# Altium schematic symbol library Transistor.SchLib: 47 symbols
Pins are listed as number, name and electrical type; pins without a type are passive.

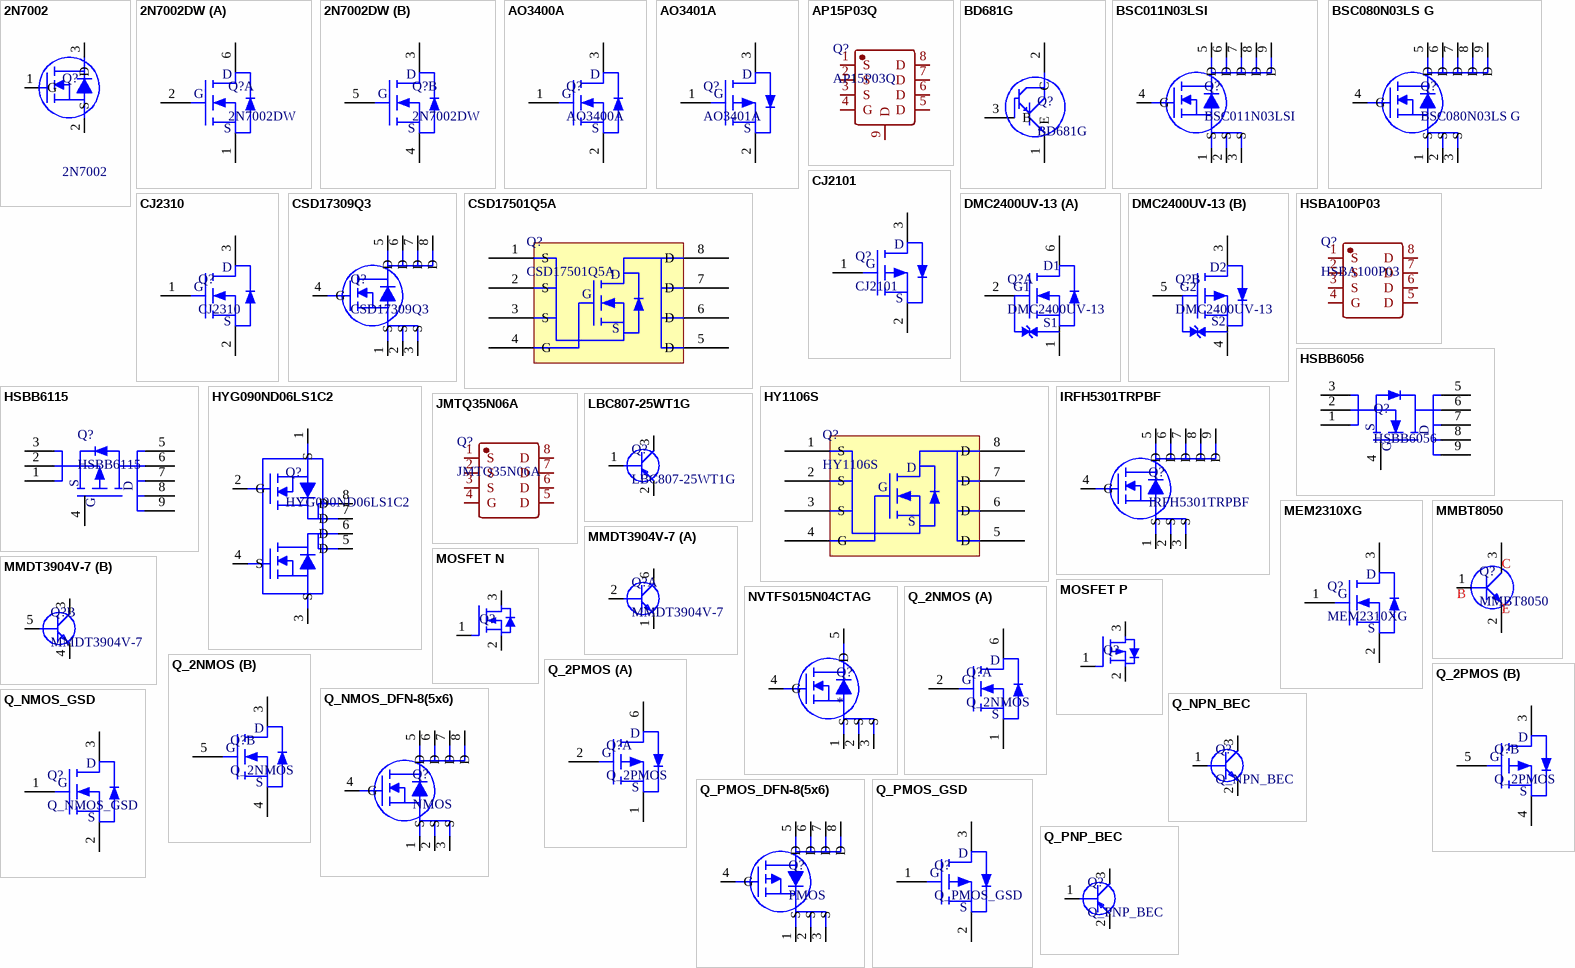
[diagram p0: symbols 2N7002 to Q_PNP_BEC]

## 2N7002
designator Q?
N MOS管  2N7002; Material Code: 3040310009; 材料类别: MOS管贴片; Vcb: ±12; Vce: 20; Rds(on): 0.07; 额定电流: 4.7; MOS类型: MOS-P; 引脚顺序: 123-GSD; Latest Revision Date: 20181016; Publisher: Huanghui; Footprint: SOT-23; 供应商: 利尔达科技集团股份有限公司
footprint SOT-23 (SOT23, 3-Leads, Body 2.90x2.45mm, Pitch 0.95mm, IPC Medium Density)
pins: 1 G, 2 S, 3 D

## 2N7002DW
designator Q?
N-Channel Enhancement Mode Field Effect Transistor
footprint SC-70-6 (SOT23, 6-Leads, Body 2.00x2.10mm, Pitch 0.65mm, IPC Medium Density)
part A pins: 1 S, 2 G, 6 D
part B pins: 3 D, 4 S, 5 G

## AO3400A
designator Q?
N沟道MOS Vdss：30V Id：5.7A
footprint SOT-23 (SOT23, 3-Leads, Body 2.90x2.45mm, Pitch 0.95mm, IPC Medium Density)
pins: 1 G, 2 S, 3 G
text: D

## AO3401A
designator Q?
AO3401A -30V 4A P-Channel Enhancement Mode MOSFET
footprint SOT-23 (SOT23, 3-Leads, Body 2.90x2.45mm, Pitch 0.95mm, IPC Medium Density)
pins: 1 G, 2 S, 3 G
text: D

## AP15P03Q
designator Q?
P沟道 30V 30A
footprint PDFN-8_L3.2-W3.0-P0.65-LS3.3-BL
pins: 1 S, 2 S, 3 S, 4 G, 5 D, 6 D, 7 D, 8 D, 9 D

## BD681G
designator Q?
BD681G 达林顿管 4A 40W
footprint TO-225
pins: 1 E, 2 C, 3 B

## BSC011N03LSI
designator Q?
N沟道 30V 100A 1mΩ
footprint PQFN-8_L5.8-W4.9-P1.27-LS6.0-BL
pins: 1 S, 2 S, 3 S, 4 G, 5 D, 6 D, 7 D, 8 D, 9 D

## BSC080N03LS G
designator Q?
N沟道 30V 14A 8mΩ
footprint PQFN-8_L5.8-W4.9-P1.27-LS6.0-BL
pins: 1 S, 2 S, 3 S, 4 G, 5 D, 6 D, 7 D, 8 D, 9 D

## CJ2101
designator Q?
P沟道,-20V,-1.4A,100mΩ@-4.5V
footprint SC-70-3 (SOTFL, 3-Leads, Body 2.00x2.20mm, Pitch 0.65mm, IPC Medium Density)
pins: 1 G, 2 S, 3 G
text: D

## CJ2310
designator Q?
N沟道 60V 3A
footprint SOT-23 (SOT23, 3-Leads, Body 2.90x2.45mm, Pitch 0.95mm, IPC Medium Density)
pins: 1 G, 2 S, 3 G
text: D

## CSD17309Q3
designator Q?
30V, N-Channel NexFET™ Power MOSFET
footprint SON-5_3_3x3_3mm_P0.65mm (SON, 8-Leads, Body 3.30x3.30mm, Pitch 0.65mm, Thermal Pad 2.50x1.55mm, IPC Medium Density)
pins: 1 S, 2 S, 3 S, 4 G, 5 D, 6 D, 7 D, 8 D

## CSD17501Q5A
designator Q?
30V, N-Channel NexFET™ Power MOSFETs, VGS = 4.5V 3 mΩ
footprint SON-5_5x6mm_P1.27mm (SON, 8-Leads, Body 4.90x6.00mm, Pitch 1.27mm, Thermal Pad 2.50x1.55mm, IPC Medium Density)
pins: 1 S, 2 S, 3 S, 4 G, 5 D, 6 D, 7 D, 8 D

## DMC2400UV-13
designator Q?
1个N沟道和1个P沟道 耐压:20V 电流:700mA 电流:1.03A
footprint SOT-563 (SOTFL, 6-Leads, Body 1.70x1.70mm, Pitch 0.50mm, IPC Medium Density)
part A pins: 1 S1, 2 G1, 6 G1
part B pins: 3 G2, 4 S2, 5 G2
part A text: D1
part B text: D2

## HSBA100P03
designator Q?
P沟道 30V 100A  140W
footprint SON-5_5x6mm_P1.27mm (SON, 8-Leads, Body 4.90x6.00mm, Pitch 1.27mm, Thermal Pad 2.50x1.55mm, IPC Medium Density)
footprint SON-5_5x6mm_P1.27mm (SON, 8-Leads, Body 4.90x6.00mm, Pitch 1.27mm, Thermal Pad 2.50x1.55mm, IPC Medium Density)
pins: 1 S, 2 S, 3 S, 4 G, 5 D, 6 D, 7 D, 8 D

## HSBB6056
designator Q?
N沟道 耐压:60V 电流:30A
footprint PDFN-8_L3.2-W3.0-P0.65-LS3.3-BL
pins: 1 S, 2 S, 3 S, 4 G, 5 G, 6 G, 7 G, 8 G, 9 G
text: D

## HSBB6115
designator Q?
P沟道 耐压:60V 电流:26A
footprint PDFN-8_L3.2-W3.0-P0.65-LS3.3-BL
pins: 1 S, 2 S, 3 S, 4 G, 5 G, 6 G, 7 G, 8 G, 9 G
text: D

## HY1106S
designator Q?
60V, 11A, N-Channel NexFET™ Power MOSFET
footprint SO-8_3.9x4.9mm_P1.27mm (SOIC, 8-Leads, Body 4.9x3.90mm, Pitch 1.27mm, IPC Medium Density)
pins: 1 S, 2 S, 3 S, 4 G, 5 D, 6 D, 7 D, 8 D

## HYG090ND06LS1C2
designator Q?
2个N沟道 60V 56A 8mΩ
footprint PDFN-8_L5.9-W5.2-P1.27-LS6.2-BL-1
pins: 1 S, 2 G, 3 S, 4 S, 5 D, 6 D, 7 D, 8 D

## IRFH5301TRPBF
designator Q?
N沟道,30V,100A,1.85mΩ@10V
footprint PQFN-8_L5.8-W4.9-P1.27-LS6.0-BL
pins: 1 S, 2 S, 3 S, 4 G, 5 D, 6 D, 7 D, 8 D, 9 D

## JMTQ35N06A
designator Q?
N沟道 60V 35A
footprint PDFN-8_L3.2-W3.0-P0.65-LS3.3-BL
pins: 1 S, 2 S, 3 S, 4 G, 5 D, 6 D, 7 D, 8 D

## LBC807-25WT1G
designator Q?
PNP 45V 500mA
footprint SC-70-3 (SOTFL, 3-Leads, Body 2.00x2.20mm, Pitch 0.65mm, IPC Medium Density)
pins: 1 B, 2 E, 3 C

## MEM2310XG
designator Q?
N-Channel MOSFET MEM2310X
footprint SOT-23 (SOT23, 3-Leads, Body 2.90x2.45mm, Pitch 0.95mm, IPC Medium Density)
pins: 1 G, 2 S, 3 G
text: D

## MMBT8050
designator Q?
NPN 25V 600mA
footprint SOT-23 (SOT23, 3-Leads, Body 2.90x2.45mm, Pitch 0.95mm, IPC Medium Density)
pins: 1 B, 2 E, 3 C

## MMDT3904V-7
designator Q?
NPN 40V 200mA 2个NPN
footprint SOT-563 (SOTFL, 6-Leads, Body 1.70x1.70mm, Pitch 0.50mm, IPC Medium Density)
part A pins: 1 E1, 2 B1, 6 C1
part B pins: 3 C2, 4 E2, 5 B2

## MOSFET N
designator Q?
footprint SC-70-3 (SOTFL, 3-Leads, Body 2.00x2.20mm, Pitch 0.65mm, IPC Medium Density)
footprint SOT-23 (SOT23, 3-Leads, Body 2.90x2.45mm, Pitch 0.95mm, IPC Medium Density)
pins: 1 GATE, 2 SOURCE, 3 DRAIN

## MOSFET P
designator Q?
footprint SC-70-3 (SOTFL, 3-Leads, Body 2.00x2.20mm, Pitch 0.65mm, IPC Medium Density)
footprint SOT-23 (SOT23, 3-Leads, Body 2.90x2.45mm, Pitch 0.95mm, IPC Medium Density)
pins: 1 GATE, 2 SOURCE, 3 DRAIN

## NVTFS015N04CTAG
designator Q?
N沟道 40V  27A  14.4mΩ@10V
footprint WDFN-5_L3.3-W3.3-P0.65-BL
pins: 1 S, 2 S, 3 S, 4 G, 5 D

## Q_2NMOS
designator Q?
2个NMOS
footprint SC-70-6 (SOT23, 6-Leads, Body 2.00x2.10mm, Pitch 0.65mm, IPC Medium Density)
part A pins: 1 S, 2 G, 6 D
part B pins: 3 D, 4 S, 5 G

## Q_2PMOS
designator Q?
2个Pmos
footprint SC-70-6 (SOT23, 6-Leads, Body 2.00x2.10mm, Pitch 0.65mm, IPC Medium Density)
part A pins: 1 S1, 2 G1, 6 D1
part B pins: 3 D2, 4 S2, 5 G1
part A text: D; G; S
part B text: D; G; S

## Q_NMOS_DFN-8(5x6)
designator Q?, comment NMOS
N MOS管，DFN-8(5x6)封装
footprint SON-5_5x6mm_P1.27mm (SON, 8-Leads, Body 4.90x6.00mm, Pitch 1.27mm, Thermal Pad 2.50x1.55mm, IPC Medium Density)
pins: 1 S, 2 S, 3 S, 4 G, 5 D, 6 D, 7 D, 8 D

## Q_NMOS_GSD
designator Q?
N-MOS, Gate Source Drain
footprint SOT-23 (SOT23, 3-Leads, Body 2.90x2.45mm, Pitch 0.95mm, IPC Medium Density)
footprint SC-70-3 (SOTFL, 3-Leads, Body 2.00x2.20mm, Pitch 0.65mm, IPC Medium Density)
pins: 1 G, 2 S, 3 G
text: D

## Q_NPN_BEC
designator Q?
NPN transistor, base/emitter/collector
footprint SOT-23 (SOT23, 3-Leads, Body 2.90x2.45mm, Pitch 0.95mm, IPC Medium Density)
pins: 1 B, 2 E, 3 C

## Q_PMOS_DFN-8(5x6)
designator Q?, comment PMOS
P MOS管，DFN-8(5x6)封装
footprint SON-5_5x6mm_P1.27mm (SON, 8-Leads, Body 4.90x6.00mm, Pitch 1.27mm, Thermal Pad 2.50x1.55mm, IPC Medium Density)
pins: 1 S, 2 S, 3 S, 4 G, 5 D, 6 D, 7 D, 8 D

## Q_PMOS_GSD
designator Q?
P-MOS, Gate Source Drain
footprint SOT-23 (SOT23, 3-Leads, Body 2.90x2.45mm, Pitch 0.95mm, IPC Medium Density)
footprint SC-70-3 (SOTFL, 3-Leads, Body 2.00x2.20mm, Pitch 0.65mm, IPC Medium Density)
pins: 1 G, 2 S, 3 G
text: D

## Q_PNP_BEC
designator Q?
PNP transistor, base/emitter/collector
footprint SOT-23 (SOT23, 3-Leads, Body 2.90x2.45mm, Pitch 0.95mm, IPC Medium Density)
pins: 1 B, 2 E, 3 C

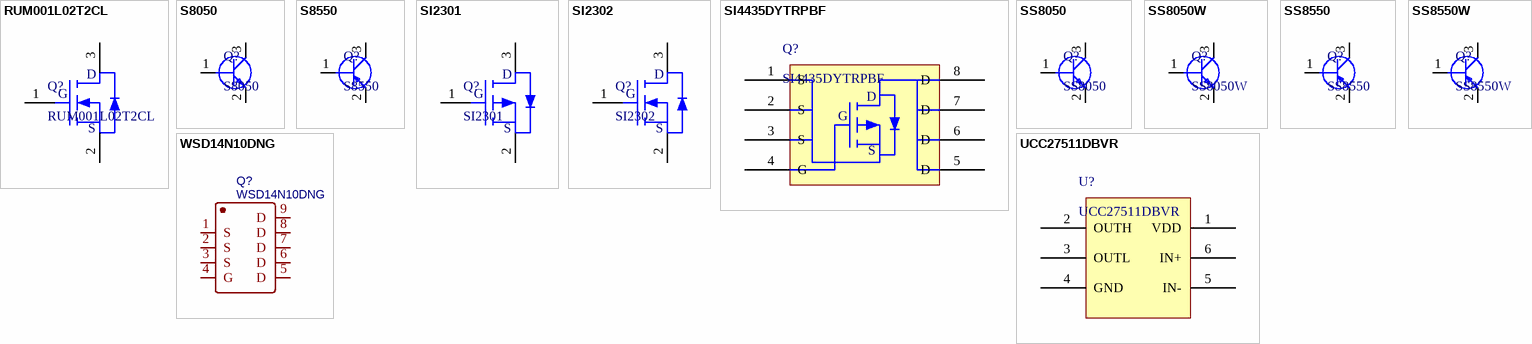
[diagram p1: symbols RUM001L02T2CL to WSD14N10DNG]

## RUM001L02T2CL
designator Q?
N沟道 20V 100mA
footprint SOT-723 (SOTFL, 3-Leads, Body 1.20x1.20mm, Pitch 0.40mm, IPC Medium Density)
pins: 1 G, 2 S, 3 G
text: D

## S8050
designator Q?
NPN 25V 500mA
footprint SOT-23 (SOT23, 3-Leads, Body 2.90x2.45mm, Pitch 0.95mm, IPC Medium Density)
pins: 1 B, 2 E, 3 C

## S8550
designator Q?
PNP 25V 500mA
footprint SOT-23 (SOT23, 3-Leads, Body 2.90x2.45mm, Pitch 0.95mm, IPC Medium Density)
pins: 1 B, 2 E, 3 C

## SI2301
designator Q?
SI2301 -20V 4A P-Channel Enhancement Mode MOSFET VDS=-20V
footprint SOT-23 (SOT23, 3-Leads, Body 2.90x2.45mm, Pitch 0.95mm, IPC Medium Density)
pins: 1 G, 2 S, 3 G
text: D

## SI2302
designator Q?
SI2302 PUOLOP 20V 4A N-Channel Enhancement Mode MOSFET VDS=20V
footprint SOT-23 (SOT23, 3-Leads, Body 2.90x2.45mm, Pitch 0.95mm, IPC Medium Density)
pins: 1 G, 2 S, 3 G
text: D

## SI4435DYTRPBF
designator Q?
Infineon P-MOS  Vdss = -30V Rds(on) = 0.02R
footprint SO-8_3.9x4.9mm_P1.27mm (SOIC, 8-Leads, Body 4.9x3.90mm, Pitch 1.27mm, IPC Medium Density)
pins: 1 S, 2 S, 3 S, 4 G, 5 D, 6 D, 7 D, 8 D

## SS8050
designator Q?
NPN 25V 1.5A
footprint SOT-23 (SOT23, 3-Leads, Body 2.90x2.45mm, Pitch 0.95mm, IPC Medium Density)
pins: 1 B, 2 E, 3 C

## SS8050W
designator Q?
NPN 25V 1.5A
footprint SC-70-3 (SOTFL, 3-Leads, Body 2.00x2.20mm, Pitch 0.65mm, IPC Medium Density)
pins: 1 B, 2 E, 3 C

## SS8550
designator Q?
PNP 25V 1.5A
footprint SOT-23 (SOT23, 3-Leads, Body 2.90x2.45mm, Pitch 0.95mm, IPC Medium Density)
pins: 1 B, 2 E, 3 C

## SS8550W
designator Q?
PNP 25V 1.5A
footprint SC-70-3 (SOTFL, 3-Leads, Body 2.00x2.20mm, Pitch 0.65mm, IPC Medium Density)
pins: 1 B, 2 E, 3 C

## UCC27511DBVR
designator U?
UCC27511 4A/8A 单通道高速低侧闸极驱动器
footprint SOT-23-6 (SOT23, 6-Leads, Body 2.90x2.80mm, Pitch 0.95mm, IPC Medium Density)
pins: 1 VDD, 2 OUTH, 3 OUTL, 4 GND, 5 IN-, 6 IN+

## WSD14N10DNG
designator Q?
BOM_Manufacturer: Winsok Semicon; Contributor: LCSC; BOM_Supplier: LCSC; BOM_Supplier Part: C719096; BOM_Manufacturer Part: WSD14N10DNG; BOM_JLCPCB Part Class: Extended Part; spicePre: Q; spiceSymbolName: WSD14N10DNG
footprint POWERVDFN-8_L3.2-W3.1-P0.65-LS3.3-BL-1
pins: 1 S, 2 S, 3 S, 4 G, 5 D, 6 D, 7 D, 8 D, 9 D